# Altium footprint library BZX84C22.PcbLib: 3 footprints
Each footprint in its own frame and in the unit in brackets; x right, y up, seen from the top. Pads: shape width x height; smd on the part's side, far side on the other; paste and mask are expansions set on the pad; w line width, h text height; cw(c..) or ccw(c..) is an arc to the next point about the centre after c.
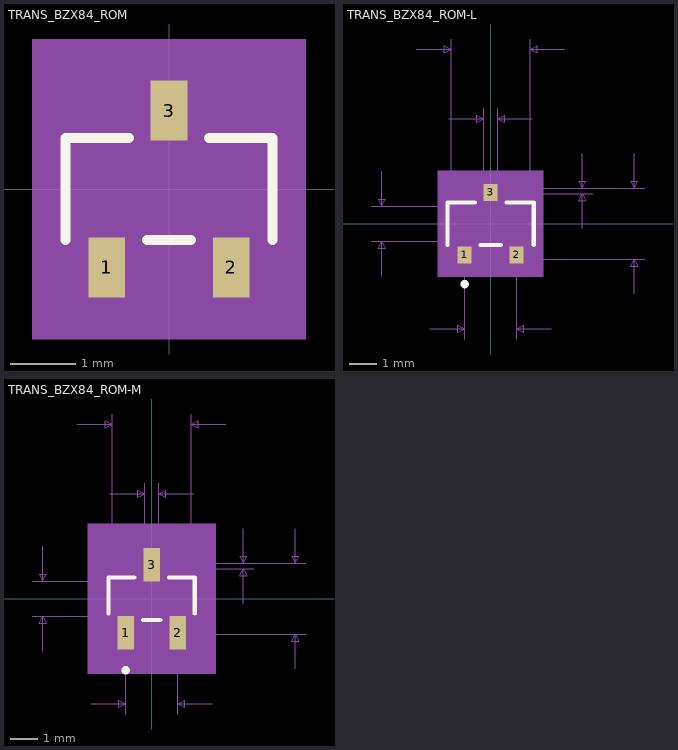
[diagram p0: the footprints below, top view; thin cyan lines are the x and y axes]

## TRANS_BZX84_ROM [mil]
pads (3):
  rect 22x36 smd paste+0 mask+0: 1(-37.4,-47) 2(37.4,-47) 3(0,47)
Top Overlay:
  lines w6: -62,-30.5 -62,30.5 -24.1,30.5 ; -13.3,-30.5 13.3,-30.5 ; 24.1,30.5 62,30.5 62,-30.5
Mechanical 5:
  region: -82,90 82,90 82,-90 -82,-90
Mechanical 13:
  lines w1: -57,-25.5 57,-25.5 57,25.5 -57,25.5 -57,-25.5 ; -47.4,-51 -47.4,-25.5 -27.4,-25.5 -27.4,-51 -47.4,-51 ; -10,25.5 10,25.5 10,51 -10,51 -10,25.5 ; 27.4,-51 27.4,-25.5 47.4,-25.5 47.4,-51 27.4,-51
Mechanical 15:
  region: -67,-35.5 -67,35.5 -20,35.5 -20,75 20,75 20,35.5 67,35.5 67,-35.5 57.4,-35.5 57.4,-75 -57.4,-75 -57.4,-35.5
  lines w6: -67,-35.5 -67,35.5 -20,35.5 -20,75 20,75 20,35.5 67,35.5 67,-35.5 57.4,-35.5 57.4,-75 -57.4,-75 -57.4,-35.5 -67,-35.5
3D body "TRANS_BZX84_ROM.step": height 45.12, standoff 0, extent -57,-50.98 57.01,50.99
3D body: height 10, standoff 0, extent 0,0 10,10

## TRANS_BZX84_ROM-L [mil]
pads (3):
  rect 20x24 smd paste+0 mask+0: 1(-37.4,-45) 2(37.4,-45) 3(0,45)
Top Overlay:
  circle w6: c-37.4,-87 r3
  lines w6: -62,-30.5 -62,30.5 -22.86,30.5 ; -14.54,-30.5 14.54,-30.5 ; 22.86,30.5 62,30.5 62,-30.5
Mechanical 5:
  region: -76,76 76,76 76,-76 -76,-76
Mechanical 7:
  lines w1: -172,-25.5 0,-25.5 ; -172,25.5 0,25.5 ; -157,-75.5 -157,-25.5 ; -157,75.5 -157,25.5 ; -107,251 -57,251 ; -87.4,-151 -37.4,-151 ; -60,151 -10,151 ; -57,25.5 -57,266 ; -37.4,-166 -37.4,-51 ; -10,51 -10,166 ; 0,-51 222,-51 ; 0,43 147,43 ; 10,51 10,166 ; 37.4,-166 37.4,-51 ; 57,25.5 57,266 ; 60,151 10,151 ; 87.4,-151 37.4,-151 ; 107,251 57,251 ; 132,-7 132,43 ; 132,101 132,51 ; 147,51 0,51 222,51 ; 207,-101 207,-51 ; 207,101 207,51 ; -157,-25.5 -152,-35.5 -162,-35.5 -157,-25.5 ; -157,25.5 -152,35.5 -162,35.5 -157,25.5 ; -57,251 -67,246 -67,256 -57,251 ; -37.4,-151 -47.4,-156 -47.4,-146 -37.4,-151 ; -10,151 -20,146 -20,156 -10,151 ; 10,151 20,146 20,156 10,151 ; 37.4,-151 47.4,-156 47.4,-146 37.4,-151 ; 57,251 67,246 67,256 57,251 ; 132,43 137,33 127,33 132,43 ; 132,51 137,61 127,61 132,51 ; 207,-51 212,-61 202,-61 207,-51 ; 207,51 212,61 202,61 207,51
  text "0.051in/1.295mm" at -364.5,-12.5 h25
  text "0.114in/2.896mm" at -93.75,271 h25
  text "0.02in/0.508mm" at -87.5,171 h25
  text "0.075in/1.9mm" at -81.25,-196 h25
  text "0.008in/0.203mm" at 152,34.5 h25
  text "0.102in/2.591mm" at 227,-12.5 h25
  text "Alt 2 Padstyle: OX90Y60D30P" at -337.5,-532 h50
  text "Alt 1 Padstyle: OX60Y90D30P" at -337.5,-457 h50
  text "Bottom Padstyle: RX20Y24D0T" at -337.5,-382 h50
  text "Top Padstyle: EX20Y24D0T" at -300,-307 h50
Mechanical 13:
  circle w0: c-37.4,-15.5 r3
  lines w1: -57,-25.5 -57,25.5 57,25.5 57,-25.5 -57,-25.5 ; -47.4,-51 -27.4,-51 -27.4,-25.5 -47.4,-25.5 -47.4,-51 ; -10,25.5 -10,51 10,51 10,25.5 -10,25.5 ; 27.4,-51 47.4,-51 47.4,-25.5 27.4,-25.5 27.4,-51
Mechanical 15:
  region: -61,-29.5 -61,29.5 -14,29.5 -14,61 14,61 14,29.5 61,29.5 61,-29.5 51.4,-29.5 51.4,-61 -51.4,-61 -51.4,-29.5
  lines w6: -61,-29.5 -51.4,-29.5 -51.4,-61 51.4,-61 51.4,-29.5 61,-29.5 61,29.5 14,29.5 14,61 -14,61 -14,29.5 -61,29.5 -61,-29.5
3D body: height 10, standoff 0, extent 0,0 10,10
3D body "TRANS_BZX84_ROM-L.step": height 45.12, standoff 0, extent -57,-50.98 57.01,50.99

## TRANS_BZX84_ROM-M [mil]
pads (3):
  rect 24x48 smd paste+0 mask+0: 1(-37.4,-49) 2(37.4,-49) 3(0,49)
Top Overlay:
  circle w6: c-37.4,-103 r3
  lines w6: -62,-21.41 -62,30.5 -25.1,30.5 ; -12.3,-30.5 12.3,-30.5 ; 25.1,30.5 62,30.5 62,-21.41
Mechanical 5:
  region: -92,108 92,108 92,-108 -92,-108
Mechanical 7:
  lines w1: -172,-25.5 0,-25.5 ; -172,25.5 0,25.5 ; -157,-75.5 -157,-25.5 ; -157,75.5 -157,25.5 ; -107,251 -57,251 ; -87.4,-151 -37.4,-151 ; -60,151 -10,151 ; -57,25.5 -57,266 ; -37.4,-166 -37.4,-51 ; -10,51 -10,166 ; 0,-51 222,-51 ; 0,43 147,43 ; 10,51 10,166 ; 37.4,-166 37.4,-51 ; 57,25.5 57,266 ; 60,151 10,151 ; 87.4,-151 37.4,-151 ; 107,251 57,251 ; 132,-7 132,43 ; 132,101 132,51 ; 147,51 0,51 222,51 ; 207,-101 207,-51 ; 207,101 207,51 ; -157,-25.5 -162,-35.5 -152,-35.5 -157,-25.5 ; -157,25.5 -162,35.5 -152,35.5 -157,25.5 ; -57,251 -67,256 -67,246 -57,251 ; -37.4,-151 -47.4,-146 -47.4,-156 -37.4,-151 ; -10,151 -20,156 -20,146 -10,151 ; 10,151 20,156 20,146 10,151 ; 37.4,-151 47.4,-146 47.4,-156 37.4,-151 ; 57,251 67,256 67,246 57,251 ; 132,43 127,33 137,33 132,43 ; 132,51 127,61 137,61 132,51 ; 207,-51 202,-61 212,-61 207,-51 ; 207,51 202,61 212,61 207,51
  text "Top Padstyle: EX24Y48D0T" at -300,-323 h50
  text "Bottom Padstyle: RX24Y48D0T" at -337.5,-398 h50
  text "Alt 1 Padstyle: OX60Y90D30P" at -337.5,-473 h50
  text "Alt 2 Padstyle: OX90Y60D30P" at -337.5,-548 h50
  text "0.102in/2.591mm" at 227,-12.5 h25
  text "0.008in/0.203mm" at 152,34.5 h25
  text "0.075in/1.9mm" at -81.25,-196 h25
  text "0.02in/0.508mm" at -87.5,171 h25
  text "0.114in/2.896mm" at -93.75,271 h25
  text "0.051in/1.295mm" at -364.5,-12.5 h25
Mechanical 13:
  circle w0: c-37.4,-15.5 r3
  lines w1: -57,-25.5 57,-25.5 57,25.5 -57,25.5 -57,-25.5 ; -47.4,-51 -47.4,-25.5 -27.4,-25.5 -27.4,-51 -47.4,-51 ; -10,25.5 10,25.5 10,51 -10,51 -10,25.5 ; 27.4,-51 27.4,-25.5 47.4,-25.5 47.4,-51 27.4,-51
Mechanical 15:
  region: -77,-45.5 -77,45.5 -30,45.5 -30,93 30,93 30,45.5 77,45.5 77,-45.5 67.4,-45.5 67.4,-93 -67.4,-93 -67.4,-45.5
  lines w6: -77,-45.5 -77,45.5 -30,45.5 -30,93 30,93 30,45.5 77,45.5 77,-45.5 67.4,-45.5 67.4,-93 -67.4,-93 -67.4,-45.5 -77,-45.5
3D body "TRANS_BZX84_ROM-M.step": height 45.12, standoff 0, extent -57,-50.98 57.01,50.99
3D body: height 10, standoff 0, extent 0,0 10,10